# Altium footprint library Resistors.PcbLib: 2 footprints
Each footprint in its own frame and in the unit in brackets; x right, y up, seen from the top. Pads: shape width x height; smd on the part's side, far side on the other; paste and mask are expansions set on the pad; w line width, h text height; cw(c..) or ccw(c..) is an arc to the next point about the centre after c.
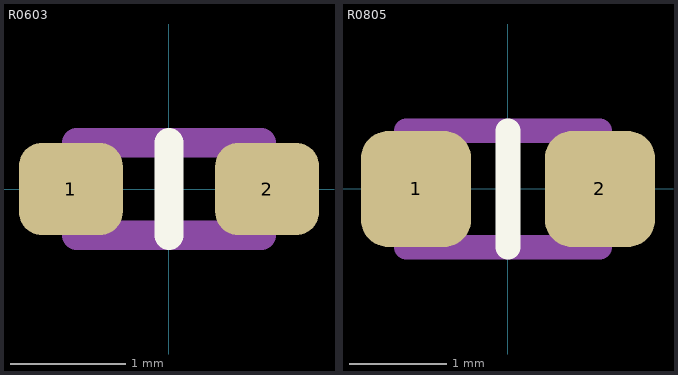
[diagram p0: the footprints below, top view; thin cyan lines are the x and y axes]

## R0603 [mm] "Chip_Resistor_0603"
height 0.5
pads (2):
  rrect50% 0.9x0.8 smd mask+0.1: 1(-0.85,0) 2(0.85,0)
Top Overlay:
  lines w0.254: 0,-0.4 0,0.4
Mechanical 1:
  lines w0.254: -0.799,-0.4 0.801,-0.4 0.801,0.4 -0.799,0.4 -0.799,-0.4
3D body "CR1608-0603.step": height 0.45, standoff 0, extent -0.8,-0.4 0.8,0.4

## R0805 [mm] "Chip_Resistor_0805"
height 0.5
pads (2):
  rrect50% 1.14x1.2 smd mask+0.1: 1(-0.95,0) 2(0.95,0)
Top Overlay:
  lines w0.254: 0,-0.6 0,0.6
Mechanical 1:
  lines w0.254: -1.05,-0.6 0.95,-0.6 0.95,0.6 -1.05,0.6 -1.05,-0.6
3D body "RES-0805.step": height 0.76, standoff 0, extent -1.075,-0.675 1.225,0.675